# EAGLE library part DMG6968 (library custom)
N-Channel Dual MOSFET Array 20V 5.2A 23mOhm 4.5V
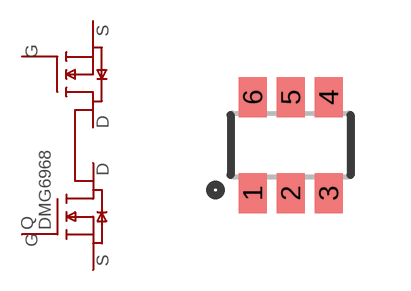
[diagram p77: symbol with the pads of SOT23-6; footprint SOT23-6]

Designator prefix Q

## DMG6968  [SOT23-6]
1  S1  pas
2  D1  pas
3  S2  pas
4  G2  in
5  D2  pas
6  G1  in

## Footprint SOT23-6 (pad centres in mm)
smd 0.7 x 1: 1 -0.95,-1.2; 2 0,-1.2; 3 0.95,-1.2; 4 0.95,1.2; 5 0,1.2; 6 -0.95,1.2